# Altium footprint library SM11B-GHS-TB(LF)(SN).PcbLib: 1 footprints
Each footprint in its own frame and in the unit in brackets; x right, y up, seen from the top. Pads: shape width x height; smd on the part's side, far side on the other; paste and mask are expansions set on the pad; w line width, h text height; cw(c..) or ccw(c..) is an arc to the next point about the centre after c.
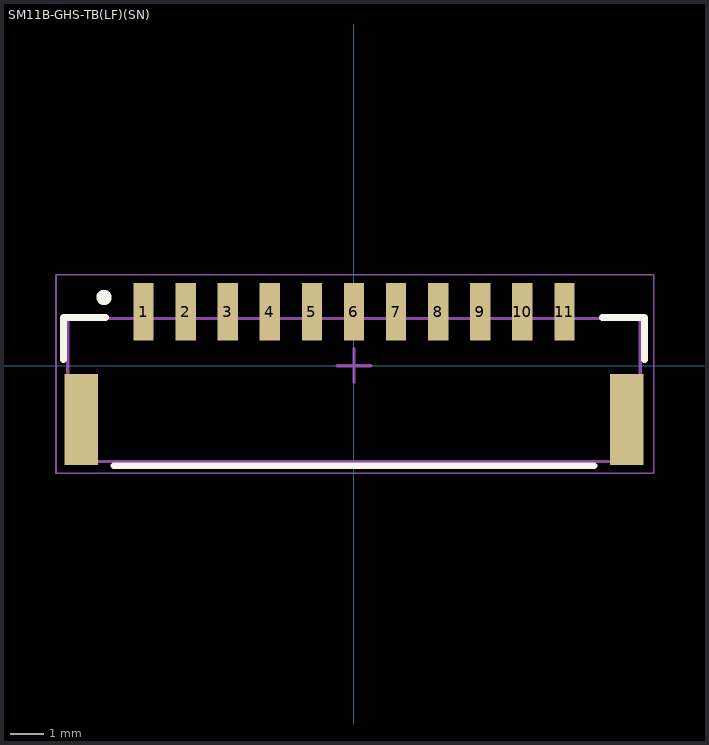
[diagram p0: the footprint, top view; thin cyan lines are the x and y axes]

## SM11B-GHS-TB(LF)(SN) [mm]
pads (13):
  rect 0.6x1.7 smd: 1(-6.25,1.6) 2(-5,1.6) 3(-3.75,1.6) 4(-2.5,1.6) 5(-1.25,1.6) 6(0,1.6) 7(1.25,1.6) 8(2.5,1.6) 9(3.75,1.6) 10(5,1.6) 11(6.25,1.6)
  rect 1x2.7 smd: ""(-8.1,-1.6) ""(8.1,-1.6)
Top Overlay:
  circle w0.254: c-7.425,2.025 r0.1
  lines w0.2: -8.625,0.175 -8.625,1.425 -7.375,1.425 ; -7.125,-2.975 7.125,-2.975 ; 7.375,1.425 8.625,1.425 8.625,0.175
Mechanical 1:
  lines w0.1: -8.5,-2.85 -8.5,1.4 8.5,1.4 8.5,-2.85 -8.5,-2.85
  text ".Designator" at -3.374,-1.458 h0.65
Mechanical 2:
  lines w0.05: -8.85,-3.2 8.9,-3.2 8.9,2.7 -8.85,2.7 -8.85,-3.2
  lines w0.1: -0.5,0 0.5,0 ; 0,-0.5 0,0.5
3D body "SM11B-GHS-TB.STEP": height 4.35, standoff 0, extent -8.5,-2.85 8.5,2